# EAGLE library part CY8C4245 (library MF_IC_Digital)
Manufacturer Part #: CY8C4245 Manufacturer: Cypress Semiconductor Description: ARM Microcontrollers - MCU 32KB Flash 4KB SRAM PSoC 4
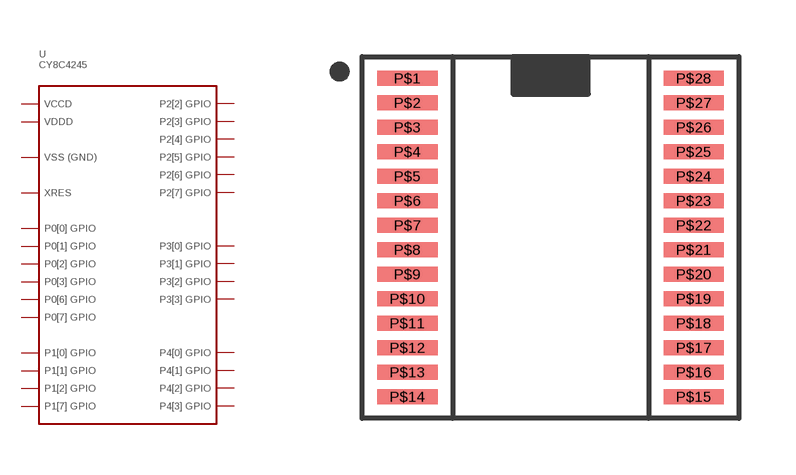
[diagram p3: symbol with the pads of SSOP28; footprint SSOP28]

Designator prefix U

## CY8C4245PVI-482 (HOUSEPART: NO; MPN: CY8C4245PVI-482; POPULATE: 1; URL: http://www.cypress.com/part/cy8c4245pvi-482; VALUE: CY8C4245PVI-482)  [SSOP28]
P$1  P1[0]
P$2  P1[1]
P$3  P1[2]
P$4  P1[7]
P$5  P2[2]
P$6  P2[3]
P$7  P2[4]
P$8  P2[5]
P$9  P2[6]
P$10  P2[7]
P$11  P3[0]
P$12  P3[1]
P$13  P3[2]
P$14  P3[3]
P$15  P4[0]
P$16  P4[1]
P$17  P4[2]
P$18  P4[3]
P$19  P0[0]
P$20  P0[1]
P$21  P0[2]
P$22  P0[3]
P$23  P0[6]
P$24  P0[7]
P$25  XRES
P$26  VCC  pwr
P$27  VDDD  pwr
P$28  GND  pwr

## Footprint SSOP28 (pad centres in mm)
Description: Standard SSOP-28 Package.
smd 1.6 x 0.4: P$1 -3.8,4.225; P$2 -3.8,3.575; P$3 -3.8,2.925; P$4 -3.8,2.275; P$5 -3.8,1.625; P$6 -3.8,0.975; P$7 -3.8,0.325; P$8 -3.8,-0.325; P$9 -3.8,-0.975; P$10 -3.8,-1.625; P$11 -3.8,-2.275; P$12 -3.8,-2.925; P$13 -3.8,-3.575; P$14 -3.8,-4.225; P$15 3.8,-4.225; P$16 3.8,-3.575; P$17 3.8,-2.925; P$18 3.8,-2.275; P$19 3.8,-1.625; P$20 3.8,-0.975; P$21 3.8,-0.325; P$22 3.8,0.325; P$23 3.8,0.975; P$24 3.8,1.625; P$25 3.8,2.275; P$26 3.8,2.925; P$27 3.8,3.575; P$28 3.8,4.225